# EAGLE library part VNH7070ASTR (library VNH7070AS)
Motor / Motion / Ignition Controllers & Drivers Source: Datasheet <http://www.st.com/content/ccc/resource/technical/document/datasheet/08/97/0a/0c/cf/4b/41/40/DM00213876.pdf/files/DM00213876.pdf/jcr:content/translations/en.DM00213876.pdf>
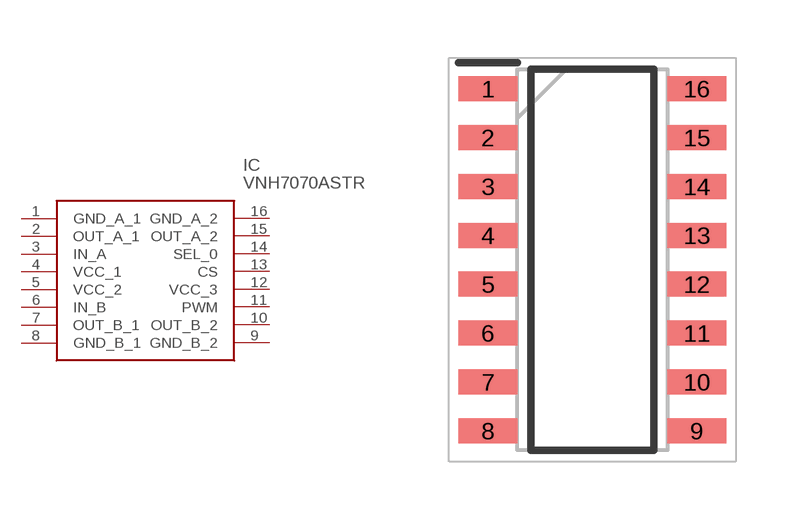
[diagram p0: symbol with the pads of SOIC127P600X175-16N; footprint SOIC127P600X175-16N]

Designator prefix IC

## VNH7070ASTR (Description: Motor / Motion / Ignition Controllers & Drivers; Height: 1.75mm; Manufacturer_Name: STMicroelectronics; Manufacturer_Part_Number: VNH7070ASTR; Mouser_Part_Number: 511-VNH7070ASTR; Mouser_Price-Stock: https://www.mouser.com/Search/Refine.aspx?Keyword=511-VNH7070ASTR; RS_Part_Number: 1647017P; RS_Price-Stock: http://uk.rs-online.com/web/p/products/1647017P)  [SOIC127P600X175-16N]
1  GND_A_1
2  OUT_A_1
3  IN_A
4  VCC_1
5  VCC_2
6  IN_B
7  OUT_B_1
8  GND_B_1
9  GND_B_2
10  OUT_B_2
11  PWM
12  VCC_3
13  CS
14  SEL_0
15  OUT_A_2
16  GND_A_2

## Footprint SOIC127P600X175-16N (pad centres in mm)
SO16 Narrow_2
smd 1.525 x 0.65: 1 -2.712,4.445; 2 -2.712,3.175; 3 -2.712,1.905; 4 -2.712,0.635; 5 -2.712,-0.635; 6 -2.712,-1.905; 7 -2.712,-3.175; 8 -2.712,-4.445; 9 2.712,-4.445; 10 2.712,-3.175; 11 2.712,-1.905; 12 2.712,-0.635; 13 2.712,0.635; 14 2.712,1.905; 15 2.712,3.175; 16 2.712,4.445